# EAGLE library part ATSAML10D16A-YFT (library ATSAML10D16A-YFT)
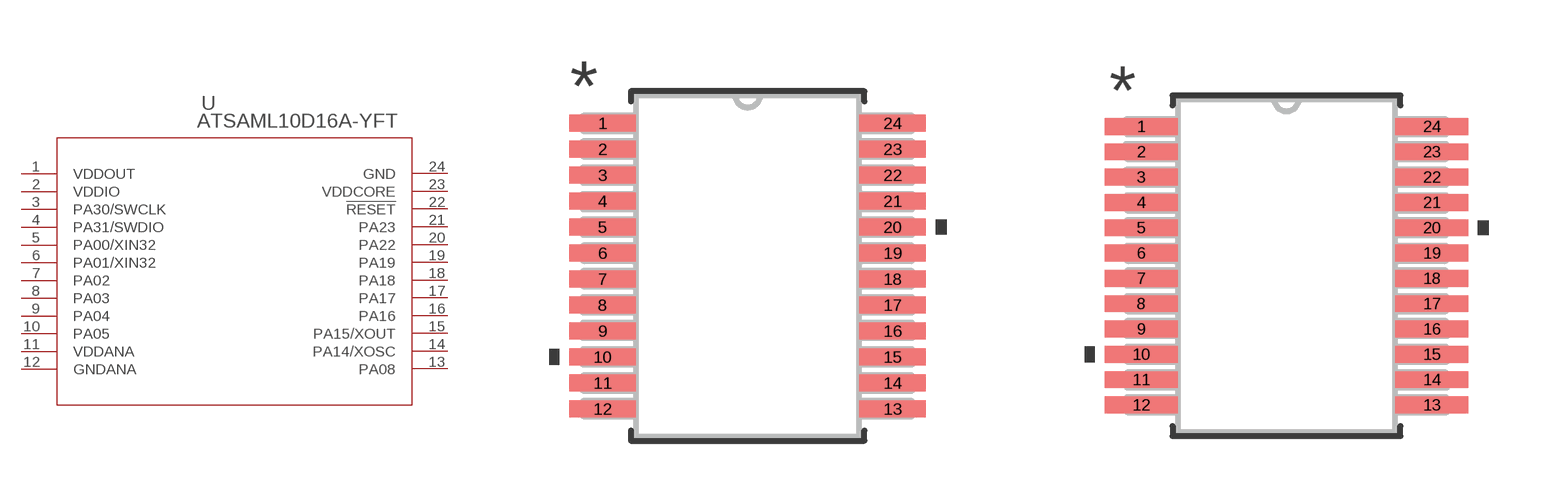
[diagram p0: symbol with the pads of SSOP24_MC_MCH; footprints SSOP24_MC_MCH, SSOP24_MC_MCH-M]

Designator prefix U

## ATSAML10D16A-YFT (BUILT_BY: EMA_Molly; COPYRIGHT: Copyright (C) 2018 Accelerated Designs. All rights reserved; MANUFACTURER_PART_NUMBER: ATSAML10D16A-YFT; SOURCELIBRARY: Microchip_2019-08-23_25; VENDOR: Microchip)  [SSOP24_MC_MCH]
1  VDDOUT  out
2  VDDIO  pwr
3  PA30/SWCLK
4  PA31/SWDIO
5  PA00/XIN32  in
6  PA01/XIN32  in
7  PA02
8  PA03
9  PA04
10  PA05
11  VDDANA  pwr
12  GNDANA  pas
13  PA08
14  PA14/XOSC
15  PA15/XOUT  out
16  PA16
17  PA17
18  PA18
19  PA19
20  PA22
21  PA23
22  !RESET  pas
23  VDDCORE  pwr
24  GND  pas

## ATSAML10D16A-YFTSSOP24_MC_MCH-M (BUILT_BY: EMA_Molly; COPYRIGHT: Copyright (C) 2018 Accelerated Designs. All rights reserved; MANUFACTURER_PART_NUMBER: ATSAML10D16A-YFT; SOURCELIBRARY: Microchip_2019-08-23_25; VENDOR: Microchip)  [SSOP24_MC_MCH-M]
Pads as for SSOP24_MC_MCH

## ATSAML10D16A-YFTSSOP24_MC_MCH-L (BUILT_BY: EMA_Molly; COPYRIGHT: Copyright (C) 2018 Accelerated Designs. All rights reserved; MANUFACTURER_PART_NUMBER: ATSAML10D16A-YFT; SOURCELIBRARY: Microchip_2019-08-23_25; VENDOR: Microchip)  [SSOP24_MC_MCH-L]
Pads as for SSOP24_MC_MCH

## Footprint SSOP24_MC_MCH (pad centres in mm)
smd 1.664 x 0.432: 1 -3.626,3.575; 2 -3.626,2.925; 3 -3.626,2.275; 4 -3.626,1.625; 5 -3.626,0.975; 6 -3.626,0.325; 7 -3.626,-0.325; 8 -3.626,-0.975; 9 -3.626,-1.625; 10 -3.626,-2.275; 11 -3.626,-2.925; 12 -3.626,-3.575; 13 3.626,-3.575; 14 3.626,-2.925; 15 3.626,-2.275; 16 3.626,-1.625; 17 3.626,-0.975; 18 3.626,-0.325; 19 3.626,0.325; 20 3.626,0.975; 21 3.626,1.625; 22 3.626,2.275; 23 3.626,2.925; 24 3.626,3.575

## Footprint SSOP24_MC_MCH-M (pad centres in mm)
smd 1.867 x 0.432: 1 -3.727,3.575; 2 -3.727,2.925; 3 -3.727,2.275; 4 -3.727,1.625; 5 -3.727,0.975; 6 -3.727,0.325; 7 -3.727,-0.325; 8 -3.727,-0.975; 9 -3.727,-1.625; 10 -3.727,-2.275; 11 -3.727,-2.925; 12 -3.727,-3.575; 13 3.727,-3.575; 14 3.727,-2.925; 15 3.727,-2.275; 16 3.727,-1.625; 17 3.727,-0.975; 18 3.727,-0.325; 19 3.727,0.325; 20 3.727,0.975; 21 3.727,1.625; 22 3.727,2.275; 23 3.727,2.925; 24 3.727,3.575

## Footprint SSOP24_MC_MCH-L (pad centres in mm)
smd 1.372 x 0.381: 1 -3.569,3.575; 2 -3.569,2.925; 3 -3.569,2.275; 4 -3.569,1.625; 5 -3.569,0.975; 6 -3.569,0.325; 7 -3.569,-0.325; 8 -3.569,-0.975; 9 -3.569,-1.625; 10 -3.569,-2.275; 11 -3.569,-2.925; 12 -3.569,-3.575; 13 3.569,-3.575; 14 3.569,-2.925; 15 3.569,-2.275; 16 3.569,-1.625; 17 3.569,-0.975; 18 3.569,-0.325; 19 3.569,0.325; 20 3.569,0.975; 21 3.569,1.625; 22 3.569,2.275; 23 3.569,2.925; 24 3.569,3.575